# EAGLE library part IR2121PBF (library International_Rectifier_By_element14_Batch_1)
LOW SIDE DRIVER
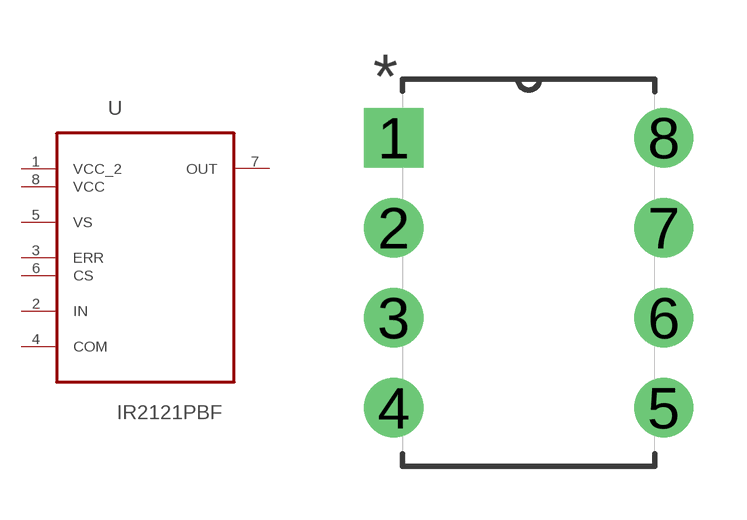
[diagram p58: symbol with the pads of DIP254P762X533-8; footprint DIP254P762X533-8]

Designator prefix U

## IR2121PBF (MPN: IR2121PBF; OC_FARNELL: 9101705; OC_NEWARK: 63J7870; PACKAGE: PDIP; SUPPLIER: INTERNATIONAL RECTIFIER)  [DIP254P762X533-8]
1  VCC_2  pwr
2  IN  in
3  ERR  in
4  COM  pas
5  VS  pwr
6  CS  pas
7  OUT  out
8  VCC  pwr

## Footprint DIP254P762X533-8 (pad centres in mm)
drill 1.118 square: 1 -7.62,7.62
drill 1.118: 2 -7.62,5.08; 3 -7.62,2.54; 4 -7.62,0; 5 0,0; 6 0,2.54; 7 0,5.08; 8 0,7.62